# EAGLE library part MEZZA (library lib_paul)
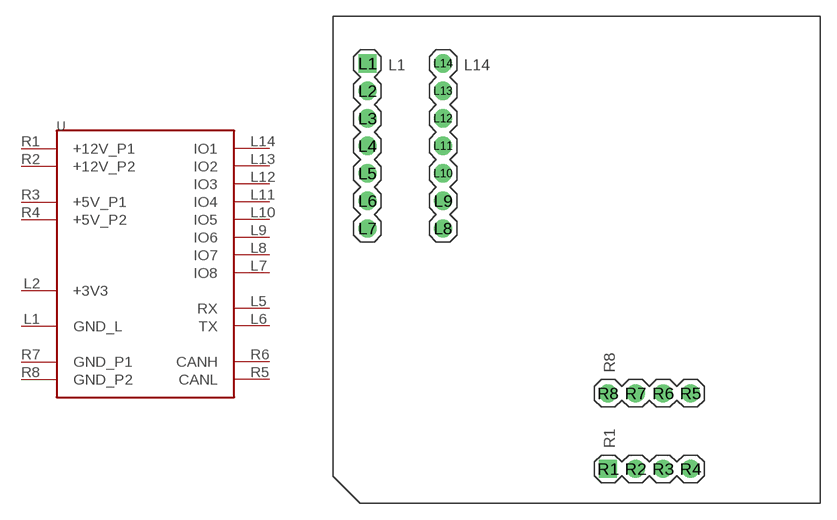
[diagram p8: symbol with the pads of CON-MEZZA; footprint CON-MEZZA]

Designator prefix -

## MEZZA  [CON-MEZZA]
L1  GND_L
L2  +3V3
L3  +5V  nc
L4  NC  nc
L5  RX
L6  TX
L7  IO8
L8  IO7
L9  IO6
L10  IO5
L11  IO4
L12  IO3
L13  IO2
L14  IO1
R1  +12V_P1
R2  +12V_P2
R3  +5V_P1
R4  +5V_P2
R5  CANL
R6  CANH
R7  GND_P1
R8  GND_P2

## Footprint CON-MEZZA (pad centres in mm)
drill 1 pad 1.676 square: L1 3.175,40.64; R1 25.4,3.175
drill 1 pad 1.676 round: L2 3.175,38.1; L3 3.175,35.56; L4 3.175,33.02; L5 3.175,30.48; L6 3.175,27.94; L7 3.175,25.4; L8 10.16,25.4; L9 10.16,27.94; L10 10.16,30.48; L11 10.16,33.02; L12 10.16,35.56; L13 10.16,38.1; L14 10.16,40.64; R2 27.94,3.175; R3 30.48,3.175; R4 33.02,3.175; R5 33.02,10.16; R6 30.48,10.16; R7 27.94,10.16; R8 25.4,10.16